# Altium schematic symbol library MLIN.SchLib: 1 symbol
Pins are listed as number, name and electrical type; pins without a type are passive.

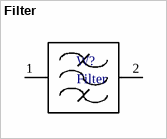
[diagram p0: symbol Filter]

## Filter
designator W?  (net tie, no BOM)
footprint Filter (Bandpass filter, Fc 8.9 GHz, BW 150 MHz)
pins: 1, 2